# EAGLE library part NE555 (library lib_stankus)
NE555
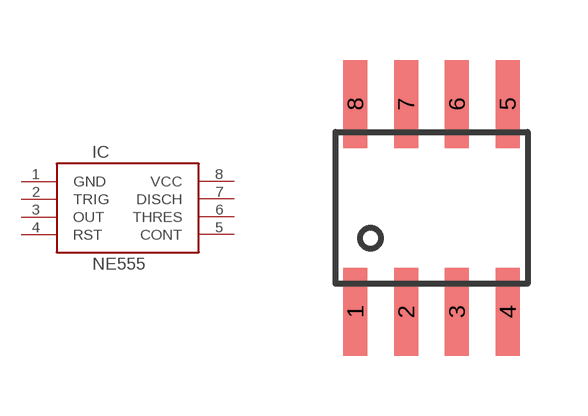
[diagram p67: symbol with the pads of SOIC8; footprint SOIC8]

Designator prefix IC

## NE555-SOIC8  [SOIC8]
1  GND  pas
2  TRIG  pas
3  OUT  pas
4  RST  pas
5  CONT  pas
6  THRES  pas
7  DISCH  pas
8  VCC  pas

## Footprint SOIC8 (pad centres in mm)
SOIC8
smd 0.6 x 2.2: 1 -1.905,-2.6; 2 -0.635,-2.6; 3 0.635,-2.6; 4 1.905,-2.6; 5 1.905,2.6; 6 0.635,2.6; 7 -0.635,2.6; 8 -1.905,2.6